# EAGLE library part TEXAS_INSTRUMENTS-BUS_TRANSCEIVER-SN74AVC4T245_RGY_16 (library Module_ICs)
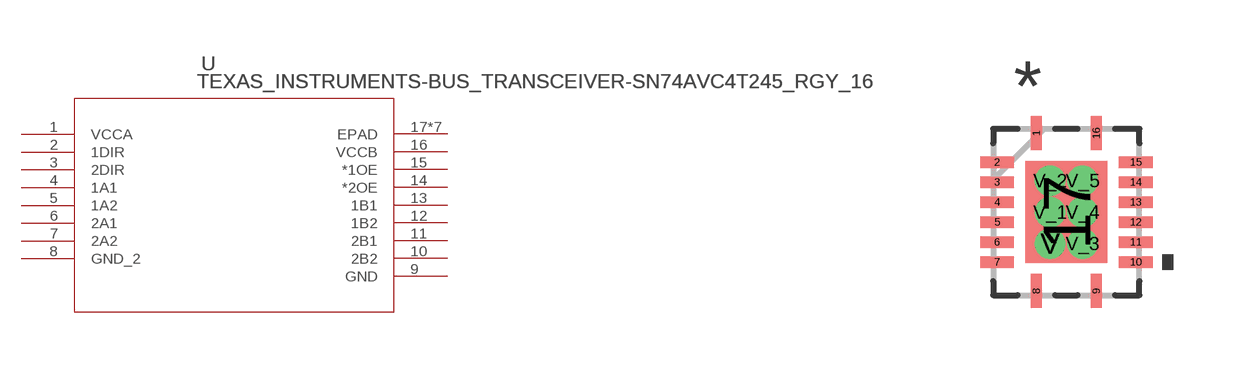
[diagram p2: symbol with the pads of TEXAS_INSTRUMENTS-BUS_TRANSCEIVER-SN74AVC4T245_RGY_16; footprint TEXAS_INSTRUMENTS-BUS_TRANSCEIVER-SN74AVC4T245_RGY_16]

Designator prefix U

## TEXAS_INSTRUMENTS-BUS_TRANSCEIVER-SN74AVC4T245_RGY_16 (DATASHEETURL: httpwww.ti.comlitgpnSN74AVC4T245; FAMILY_NAME: DIRECTION CONTROL DUAL SUPPLY TRANSLATOR; GENERIC_PART_NUMBER: SN74AVC4T245; INDUSTRY_STD_PKG_TYPE: VQFN; MANUFACTURER: Texas Instruments; MANUFACTURER_PART_NUMBER: sn74avc4t245_rgy_16; PACKAGE_DESIGNATOR: RGY; PIN_COUNT: 16; VENDOR: Texas Instruments)  [TEXAS_INSTRUMENTS-BUS_TRANSCEIVER-SN74AVC4T245_RGY_16]
1  VCCA  pwr
2  1DIR  in
3  2DIR  in
4  1A1
5  1A2
6  2A1
7  2A2
8  GND_2  pwr
9  GND  pwr
10  2B2
11  2B1
12  1B2
13  1B1
14  *2OE  in
15  *1OE  in
16  VCCB  pwr
17  EPAD  pas
V  EPAD  pas
V_1  EPAD  pas
V_2  EPAD  pas
V_3  EPAD  pas
V_4  EPAD  pas
V_5  EPAD  pas

## Footprint TEXAS_INSTRUMENTS-BUS_TRANSCEIVER-SN74AVC4T245_RGY_16 (pad centres in mm)
smd 0.28 x 0.85: 1 -0.75,1.975; 8 -0.75,-1.975; 9 0.75,-1.975; 16 0.75,1.975
smd 0.85 x 0.28: 2 -1.733,1.25; 3 -1.733,0.75; 4 -1.733,0.25; 5 -1.733,-0.25; 6 -1.733,-0.75; 7 -1.733,-1.25; 10 1.733,-1.25; 11 1.733,-0.75; 12 1.733,-0.25; 13 1.733,0.25; 14 1.733,0.75; 15 1.733,1.25
smd 2.05 x 2.55: 17 0,0
drill 0.254 pad 0.508: V -0.406,-0.787; V_1 -0.406,0; V_2 -0.406,0.787; V_3 0.406,-0.787; V_4 0.406,0; V_5 0.406,0.787